# Altium footprint library SamacSys.PcbLib: 128 footprints (part 4 of 8)
Each footprint in its own frame and in the unit in brackets; x right, y up, seen from the top. Pads: shape width x height; smd on the part's side, far side on the other; paste and mask are expansions set on the pad; w line width, h text height; cw(c..) or ccw(c..) is an arc to the next point about the centre after c.
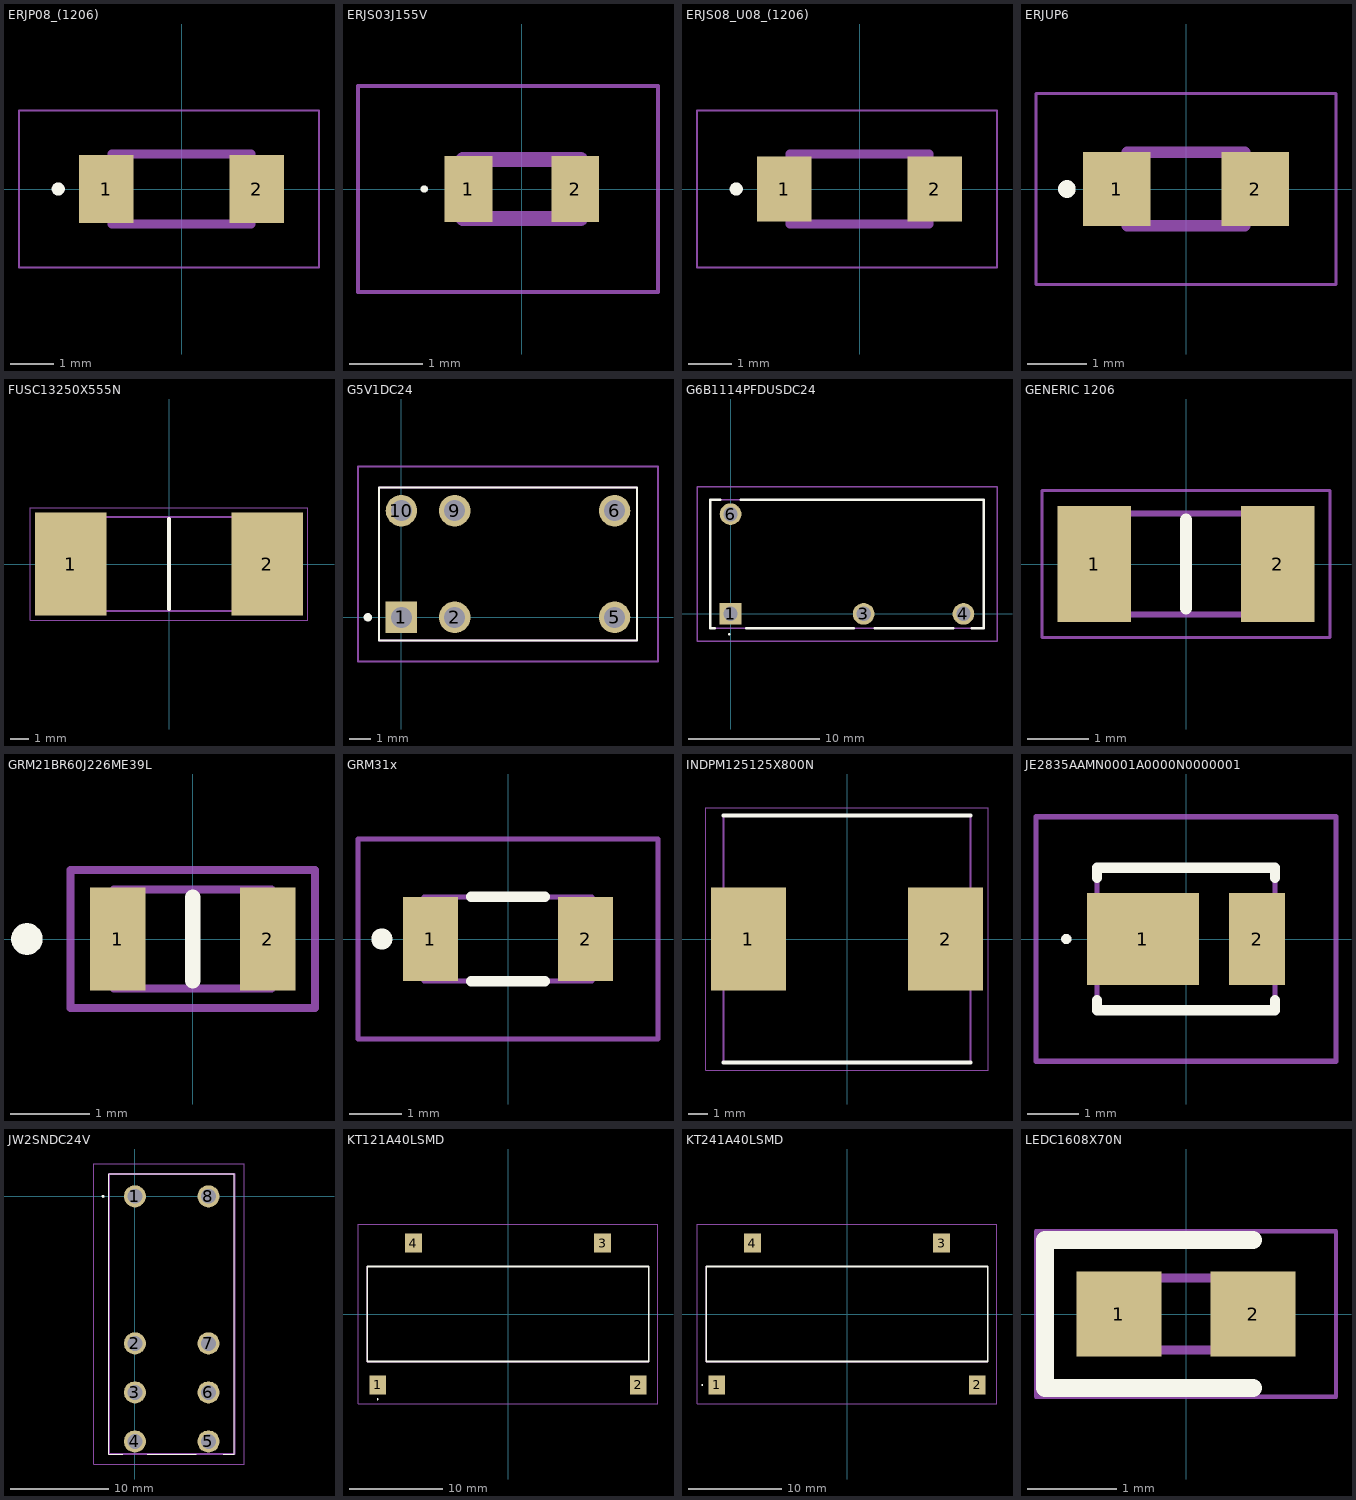
[diagram p3: the footprints below, top view; thin cyan lines are the x and y axes]

## ERJP08_(1206) [mm]
pads (2):
  rect 1.25x1.55 smd: 1(-1.725,0) 2(1.725,0)
Top Overlay:
  circle w0.2: c-2.825,0 r0.05
Mechanical 13:
  lines w0.2: -1.6,-0.8 1.6,-0.8 1.6,0.8 -1.6,0.8 -1.6,-0.8
Mechanical 15:
  lines w0.05: -3.725,-1.8 3.15,-1.8 3.15,1.8 -3.725,1.8 -3.725,-1.8
3D body "ERJ-P08D1002V.stp": height 0.6, standoff 0, extent -1.6,-0.8 1.6,0.8

## ERJS03J155V [mm]
pads (2):
  rect 0.65x0.9 smd: 1(-0.725,0) 2(0.725,0)
Top Overlay:
  lines w0.05: -1.35,0 cw(c-1.325,0) -1.3,0 cw(c-1.325,0) -1.35,0
Mechanical 13:
  lines w0.2: -0.8,-0.4 -0.8,0.4 0.8,0.4 0.8,-0.4 -0.8,-0.4
Mechanical 15:
  lines w0.05: -2.225,-1.4 -2.225,1.4 1.85,1.4 1.85,-1.4 -2.225,-1.4
3D body "ERJ-U03F2102V.stp": height 0.45, standoff 0, extent -0.8,-0.4 0.8,0.4

## ERJS08_U08_(1206) [mm]
pads (2):
  rect 1.25x1.5 smd: 1(-1.725,0) 2(1.725,0)
Top Overlay:
  circle w0.2: c-2.825,0 r0.05
Mechanical 13:
  lines w0.2: -1.6,-0.8 1.6,-0.8 1.6,0.8 -1.6,0.8 -1.6,-0.8
Mechanical 15:
  lines w0.05: -3.725,-1.8 3.15,-1.8 3.15,1.8 -3.725,1.8 -3.725,-1.8
3D body "ERJ-S08F47R0V.stp": height 0.6, standoff 0, extent -1.6,-0.8 1.6,0.8

## ERJUP6 [mm]
pads (2):
  rect 1.15x1.25 smd: 1(-1.175,0) 2(1.175,0)
Top Overlay:
  circle w0.2: c-2.025,0 r0.05
Mechanical 13:
  lines w0.2: -1,-0.625 -1,0.625 1,0.625 1,-0.625 -1,-0.625
Mechanical 15:
  lines w0.05: -2.55,-1.625 -2.55,1.625 2.55,1.625 2.55,-1.625 -2.55,-1.625
3D body "ERJ-UP6F1242V.stp": height 0.6, standoff 0, extent -1,-0.625 1,0.625

## FUSC13250X555N [mm]
pads (2):
  rect 3.84x5.56 smd: 1(-5.285,0) 2(5.285,0)
Top Overlay:
  lines w0.2: 0,-2.425 0,2.425
Mechanical 13:
  lines w0.1: -6.6,-2.525 -6.6,2.525 6.6,2.525 6.6,-2.525 -6.6,-2.525
Mechanical 15:
  lines w0.05: -7.455,-3.03 -7.455,3.03 7.455,3.03 7.455,-3.03 -7.455,-3.03
3D body "0ACJ-1000-TE.stp": height 5.55, standoff 0, extent -6.6,-2.525 6.6,2.525

## G5V1DC24 [mm]
pads (6):
  rect 1.5x1.5 hole 1: 1(0,0)
  round 1.5 hole 1: 2(2.54,0) 5(10.16,0) 6(10.16,5.08) 9(2.54,5.08) 10(0,5.08)
Top Overlay:
  lines w0.1: -1.07,-1.1 -1.07,6.18 11.23,6.18 11.23,-1.1 -1.07,-1.1
  lines w0.2: -1.6,-0.1 cw(c-1.6,0) -1.6,0.1 cw(c-1.6,0) -1.6,-0.1
Mechanical 13:
  lines w0.1: -1.07,-1.1 -1.07,6.18 11.23,6.18 11.23,-1.1 -1.07,-1.1
Mechanical 15:
  lines w0.1: -2.07,-2.1 -2.07,7.18 12.23,7.18 12.23,-2.1 -2.07,-2.1
3D body "G5V-1-T90_DC12.stp": height 10, standoff -3.5, extent -1.07,-1.21 11.43,6.29

## G6B1114PFDUSDC24 [mm]
pads (4):
  rect 1.65x1.65 hole 1.1: 1(0,0)
  round 1.65 hole 1.1: 3(10.16,0) 4(17.78,0) 6(0,7.62)
Top Overlay:
  lines w0.1: -0.1,-1.6 ccw(c-0.1,-1.55) -0.1,-1.5 ccw(c-0.1,-1.55) -0.1,-1.6
  lines w0.2: -1.2,-1.09 -1.56,-1.09 -1.56,8.71 -0.8,8.71 ; 0.8,8.71 19.34,8.71 19.34,-1.09 18.4,-1.09 ; 1.2,-1.09 9.4,-1.09 ; 11,-1.09 17,-1.09
Mechanical 13:
  lines w0.1: -1.56,-1.09 -1.56,8.71 19.34,8.71 19.34,-1.09 -1.56,-1.09
Mechanical 15:
  lines w0.1: -2.56,-2.09 -2.56,9.71 20.34,9.71 20.34,-2.09 -2.56,-2.09
3D body "G6B-1114P-FD-US-DC24.stp": height 10.1, standoff -5, extent -1.56,-1.09 19.34,8.71

## GENERIC 1206 [mm]
pads (2):
  rect 1.2x1.9 smd: 1(-1.5,0) 2(1.5,0)
Top Overlay:
  lines w0.2: 0,-0.725 0,0.725
Mechanical 13:
  lines w0.1: -1.6,-0.825 1.6,-0.825 1.6,0.825 -1.6,0.825 -1.6,-0.825
Mechanical 15:
  lines w0.05: -2.35,-1.2 2.35,-1.2 2.35,1.2 -2.35,1.2 -2.35,-1.2
3D body "PCS1206DR0200ET.stp": height 0.68, standoff 0, extent -1.6,-0.825 1.6,0.825

## GRM21BR60J226ME39L [mm]
pads (2):
  rect 0.7x1.3 smd: 1(-0.95,0) 2(0.95,0)
Top Overlay:
  lines w0.2: 0,-0.525 0,0.525 ; -2.1,-0.1 cw(c-2.1,0) -2.1,0.1 cw(c-2.1,0) -2.1,-0.1
Mechanical 13:
  lines w0.1: -1,-0.625 1,-0.625 1,0.625 -1,0.625 -1,-0.625
Mechanical 15:
  lines w0.1: -1.55,-0.875 1.55,-0.875 1.55,0.875 -1.55,0.875 -1.55,-0.875
3D body "GRM21BR61H106KE43L.stp": height 1, standoff 0, extent -1,-0.625 1,0.625

## GRM31x [mm]
pads (2):
  rect 1.05x1.6 smd: 1(-1.475,0) 2(1.475,0)
Top Overlay:
  lines w0.2: -0.7,-0.8 0.7,-0.8 ; -0.7,0.8 0.7,0.8 ; -2.4,-0.1 cw(c-2.4,0) -2.4,0.1 cw(c-2.4,0) -2.4,-0.1
Mechanical 13:
  lines w0.1: -1.6,-0.8 1.6,-0.8 1.6,0.8 -1.6,0.8 -1.6,-0.8
Mechanical 15:
  lines w0.1: -2.854,-1.902 2.854,-1.902 2.854,1.902 -2.854,1.902 -2.854,-1.902
3D body "GRM31CR60J107KEA8L.stp": height 1, standoff 0, extent -1.6,-0.8 1.6,0.8

## INDPM125125X800N [mm]
pads (2):
  rect 3.8x5.2 smd: 1(-5,0) 2(5,0)
Top Overlay:
  lines w0.2: -6.25,-6.25 6.25,-6.25 ; -6.25,6.25 6.25,6.25
Mechanical 13:
  lines w0.1: -6.25,-6.25 -6.25,6.25 6.25,6.25 6.25,-6.25 -6.25,-6.25
Mechanical 15:
  lines w0.05: -7.15,-6.65 -7.15,6.65 7.15,6.65 7.15,-6.65 -7.15,-6.65
3D body "SRR1280-180M.stp": height 8, standoff 0, extent -6.25,-6.25 6.25,6.25

## JE2835AAMN0001A0000N0000001 [mm]
pads (2):
  rect 2.2x1.8 smd: 1(-0.845,0)
  rect 1.1x1.8 smd: 2(1.395,0)
Top Overlay:
  lines w0.1: -2.4,0 ccw(c-2.35,0) -2.3,0 ccw(c-2.35,0) -2.4,0
  lines w0.2: -1.75,-1.2 -1.75,-1.4 1.75,-1.4 1.75,-1.2 ; -1.75,1.2 -1.75,1.4 1.75,1.4 1.75,1.2
Mechanical 13:
  lines w0.1: -1.75,-1.4 -1.75,1.4 1.75,1.4 1.75,-1.4 -1.75,-1.4
Mechanical 15:
  lines w0.1: -2.945,-2.4 -2.945,2.4 2.945,2.4 2.945,-2.4 -2.945,-2.4
3D body "JE2835AAM-N-0001A0000-N0000001.stp": height 0.9, standoff 0, extent -1.75,-1.4 1.75,1.4

## JW2SNDC24V [mm]
pads (8):
  round 2.25 hole 1.5: 1(0,0) 2(0,-15) 3(0,-20) 4(0,-25) 5(7.5,-25) 6(7.5,-20) 7(7.5,-15) 8(7.5,0)
Top Overlay:
  lines w0.1: -2.65,-26.3 -2.65,2.25 -2.65,-26.3 ; -2.65,-26.3 -1.25,-26.3 -2.65,-26.3 ; 10.15,-26.3 9,-26.3 10.15,-26.3 ; 10.15,-26.3 10.15,2.3 ; 10.15,-26.3 10.15,2.3 ; 10.15,2.3 -2.65,2.3 10.15,2.3 ; 1.25,-26.3 6.25,-26.3 1.25,-26.3
  lines w0.2: -3.3,0 cw(c-3.25,0) -3.2,0 ; -3.3,0 ccw(c-3.25,0) -3.2,0 ; -3.3,0 cw(c-3.25,0) -3.2,0
Mechanical 13:
  lines w0.2: -2.65,-26.3 -2.65,2.3 10.15,2.3 10.15,-26.3 -2.65,-26.3
Mechanical 15:
  lines w0.1: -4.2,-27.3 -4.2,3.3 11.15,3.3 11.15,-27.3 -4.2,-27.3
3D body "JW2SN-DC24V.stp": height 20, standoff -3.6, extent -2.6,-26.35 10.2,2.25

## KT121A40LSMD [mm]
pads (4):
  rect 1.8x2 smd: 1(-13.97,-7.62) 2(13.97,-7.62) 3(10.15,7.62) 4(-10.15,7.62)
Top Overlay:
  lines w0.1: -14,-9.2 ccw(c-14,-9.15) -14,-9.1 ccw(c-14,-9.15) -14,-9.2
  lines w0.2: -15.1,-5.1 15.1,-5.1 15.1,5.1 -15.1,5.1 -15.1,-5.1
Mechanical 13:
  lines w0.1: -15.1,-5.1 15.1,-5.1 15.1,5.1 -15.1,5.1 -15.1,-5.1
Mechanical 15:
  lines w0.1: -16.1,-9.62 16.1,-9.62 16.1,9.62 -16.1,9.62 -16.1,-9.62
3D body "KT12-1A-40L-SMD.stp": height 8.71, standoff 0, extent -15.1,-8.496 15.1,8.496

## KT241A40LSMD [mm]
pads (4):
  rect 1.8x2 smd: 1(-13.97,-7.62) 2(13.97,-7.62) 3(10.15,7.62) 4(-10.15,7.62)
Top Overlay:
  lines w0.1: -15.6,-7.62 ccw(c-15.55,-7.62) -15.5,-7.62 ccw(c-15.55,-7.62) -15.6,-7.62
  lines w0.2: -15.1,-5.08 -15.1,5.1 15.1,5.1 15.1,-5.08 -15.1,-5.08
Mechanical 13:
  lines w0.1: -15.1,-5.1 -15.1,5.1 15.1,5.1 15.1,-5.1 -15.1,-5.1
Mechanical 15:
  lines w0.1: -16.1,-9.62 -16.1,9.62 16.1,9.62 16.1,-9.62 -16.1,-9.62

## LEDC1608X70N [mm]
pads (2):
  rect 0.95x0.95 smd: 1(-0.75,0) 2(0.75,0)
Top Overlay:
  lines w0.2: 0.75,-0.825 -1.575,-0.825 -1.575,0.825 0.75,0.825
Mechanical 13:
  lines w0.1: -0.8,0.133 -0.533,0.4 ; -0.8,-0.4 -0.8,0.4 0.8,0.4 0.8,-0.4 -0.8,-0.4
Mechanical 15:
  lines w0.05: -1.675,-0.925 -1.675,0.925 1.675,0.925 1.675,-0.925 -1.675,-0.925
3D body "150060GS75000.stp": height 0.4, standoff -0.4, extent -0.8,-0.3 0.8,0.4